# Altium footprint library HM10PCB.PcbLib: 1 footprints
Each footprint in its own frame and in the unit in brackets; x right, y up, seen from the top. Pads: shape width x height; smd on the part's side, far side on the other; paste and mask are expansions set on the pad; w line width, h text height; cw(c..) or ccw(c..) is an arc to the next point about the centre after c.
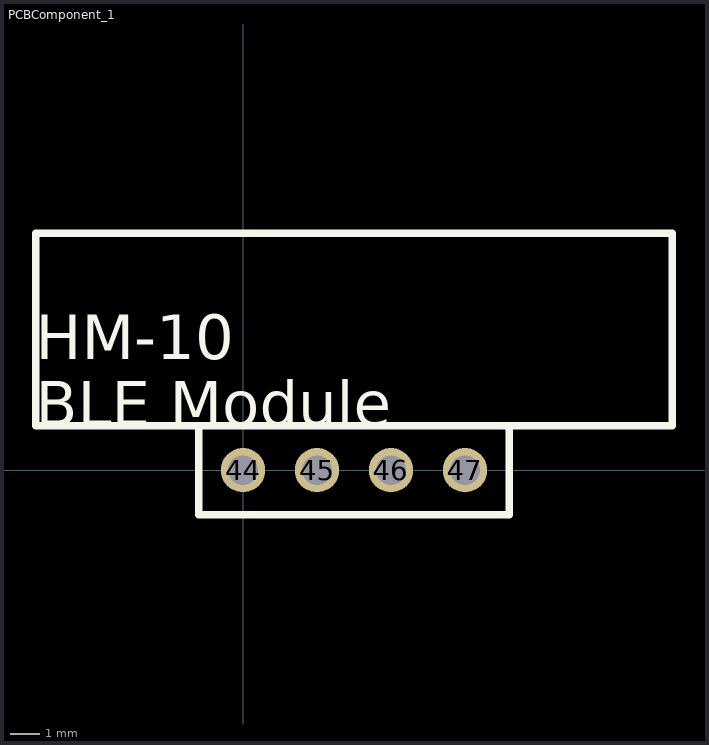
[diagram p0: the footprint, top view; thin cyan lines are the x and y axes]

## PCBComponent_1 [mil]
pads (4):
  round 60 hole 40: 44(0,0) 45(100,0) 46(200,0) 47(300,0)
Top Overlay:
  lines w10: -280,60 -280,320 580,320 580,60 150,60 -280,60 ; -60,-60 360,-60 360,60 -60,60 -60,-60
  text "HM-10 / BLE Module" at -280,60 h60